# Altium schematic symbol library Driver_Pololu_2_Canais.SchLib: 1 symbol
Pins are listed as number, name and electrical type; pins without a type are passive.

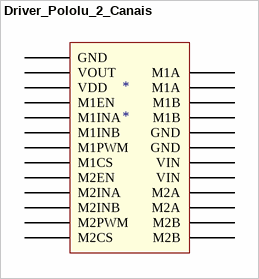
[diagram p0: symbol Driver_Pololu_2_Canais]

## Driver_Pololu_2_Canais
designator *
footprint Driver_Pololu_2_Canais
pins: GND_Logic GND, GND_Power_1 GND, GND_Power_2 GND, M1A_1 M1A, M1A_2 M1A, M1B_1 M1B, M1B_2 M1B, M1CS, M1EN, M1INA, M1INB, M1PWM, M2A_1 M2A, M2A_2 M2A, M2B_1 M2B, M2B_2 M2B, M2CS, M2EN, M2INA, M2INB, M2PWM, VDD, VIN_1 VIN, VIN_2 VIN, VOUT